# EAGLE library part DAC5578SRGET (library My_Library_RADAR)
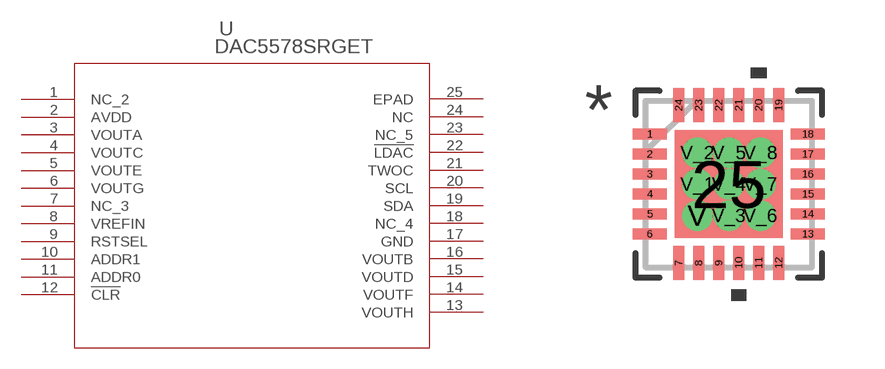
[diagram p22: symbol with the pads of RGE24_2P7X2P7; footprint RGE24_2P7X2P7]

Designator prefix U

## DAC5578SRGET (COPYRIGHT: Copyright (C) 2025 Ultra Librarian. All rights reserved.; DATASHEET: https://www.ti.com/lit/gpn/dac5578; DESCRIPTION: 8-bit, Octal Channel, Ultra-Low Glitch, Voltage Output, 2-Wire Interface DAC 24-VQFN -40 to 125; MANUFACTURER_NAME: Texas Instruments; MANUFACTURER_PART_NUMBER: DAC5578SRGET)  [RGE24_2P7X2P7]
1  NC_2  nc
2  AVDD  pwr
3  VOUTA  out
4  VOUTC  out
5  VOUTE  out
6  VOUTG  out
7  NC_3  nc
8  VREFIN  in
9  RSTSEL  pas
10  ADDR1  in
11  ADDR0  in
12  !CLR  in
13  VOUTH  out
14  VOUTF  out
15  VOUTD  out
16  VOUTB  out
17  GND  pwr
18  NC_4  nc
19  SDA  in
20  SCL  in
21  TWOC  pas
22  !LDAC  pas
23  NC_5  nc
24  NC  nc
25  EPAD  pwr

## Footprint RGE24_2P7X2P7 (pad centres in mm)
smd 0.85 x 0.28: 1 -1.975,1.25; 2 -1.975,0.75; 3 -1.975,0.25; 4 -1.975,-0.25; 5 -1.975,-0.75; 6 -1.975,-1.25; 13 1.975,-1.25; 14 1.975,-0.75; 15 1.975,-0.25; 16 1.975,0.25; 17 1.975,0.75; 18 1.975,1.25
smd 0.28 x 0.85: 7 -1.25,-1.975; 8 -0.75,-1.975; 9 -0.25,-1.975; 10 0.25,-1.975; 11 0.75,-1.975; 12 1.25,-1.975; 19 1.25,1.975; 20 0.75,1.975; 21 0.25,1.975; 22 -0.25,1.975; 23 -0.75,1.975; 24 -1.25,1.975
smd 2.7 x 2.7: 25 0,0
drill 0.254 pad 0.508: V -0.787,-0.787; V_1 -0.787,0; V_2 -0.787,0.787; V_3 0,-0.787; V_4 0,0; V_5 0,0.787; V_6 0.787,-0.787; V_7 0.787,0; V_8 0.787,0.787